# Altium schematic symbol library DAC.SchLib: 3 symbols
Pins are listed as number, name and electrical type; pins without a type are passive.

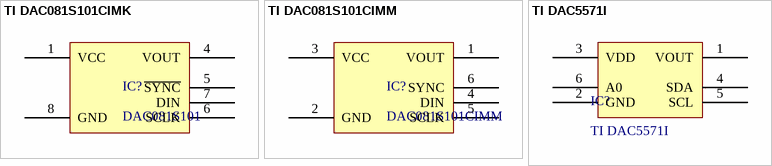
[diagram p0: symbols TI DAC081S101CIMK to TI DAC5571I]

## TI DAC081S101CIMK
designator IC?, comment DAC081S101
DAC081S101 8-Bit Micro Power Digital-to-Analog Converter with Rail-to-Rail Output
pins: 1 VCC, 4 VOUT, 5 ~{SYNC}, 6 SCLK, 7 DIN, 8 GND

## TI DAC081S101CIMM
designator IC?, comment DAC081S101CIMM
DAC081S101 8-Bit Micro Power Digital-to-Analog Converter with Rail-to-Rail Output
pins: 1 VOUT, 2 GND, 3 VCC, 4 DIN, 5 SCLK, 6 SYNC

## TI DAC5571I
designator IC?
+2.7 V to +5.5 V, I2C INTERFACE, VOLTAGE OUTPUT,  8-BIT DIGITAL-TO-ANALOG CONVERTER
pins: 1 VOUT, 2 GND, 3 VDD, 4 SDA, 5 SCL, 6 A0